# Altium footprint library axsem_testjigs.PCBLIB: 14 footprints
Each footprint in its own frame and in the unit in brackets; x right, y up, seen from the top. Pads: shape width x height; smd on the part's side, far side on the other; paste and mask are expansions set on the pad; w line width, h text height; cw(c..) or ccw(c..) is an arc to the next point about the centre after c.
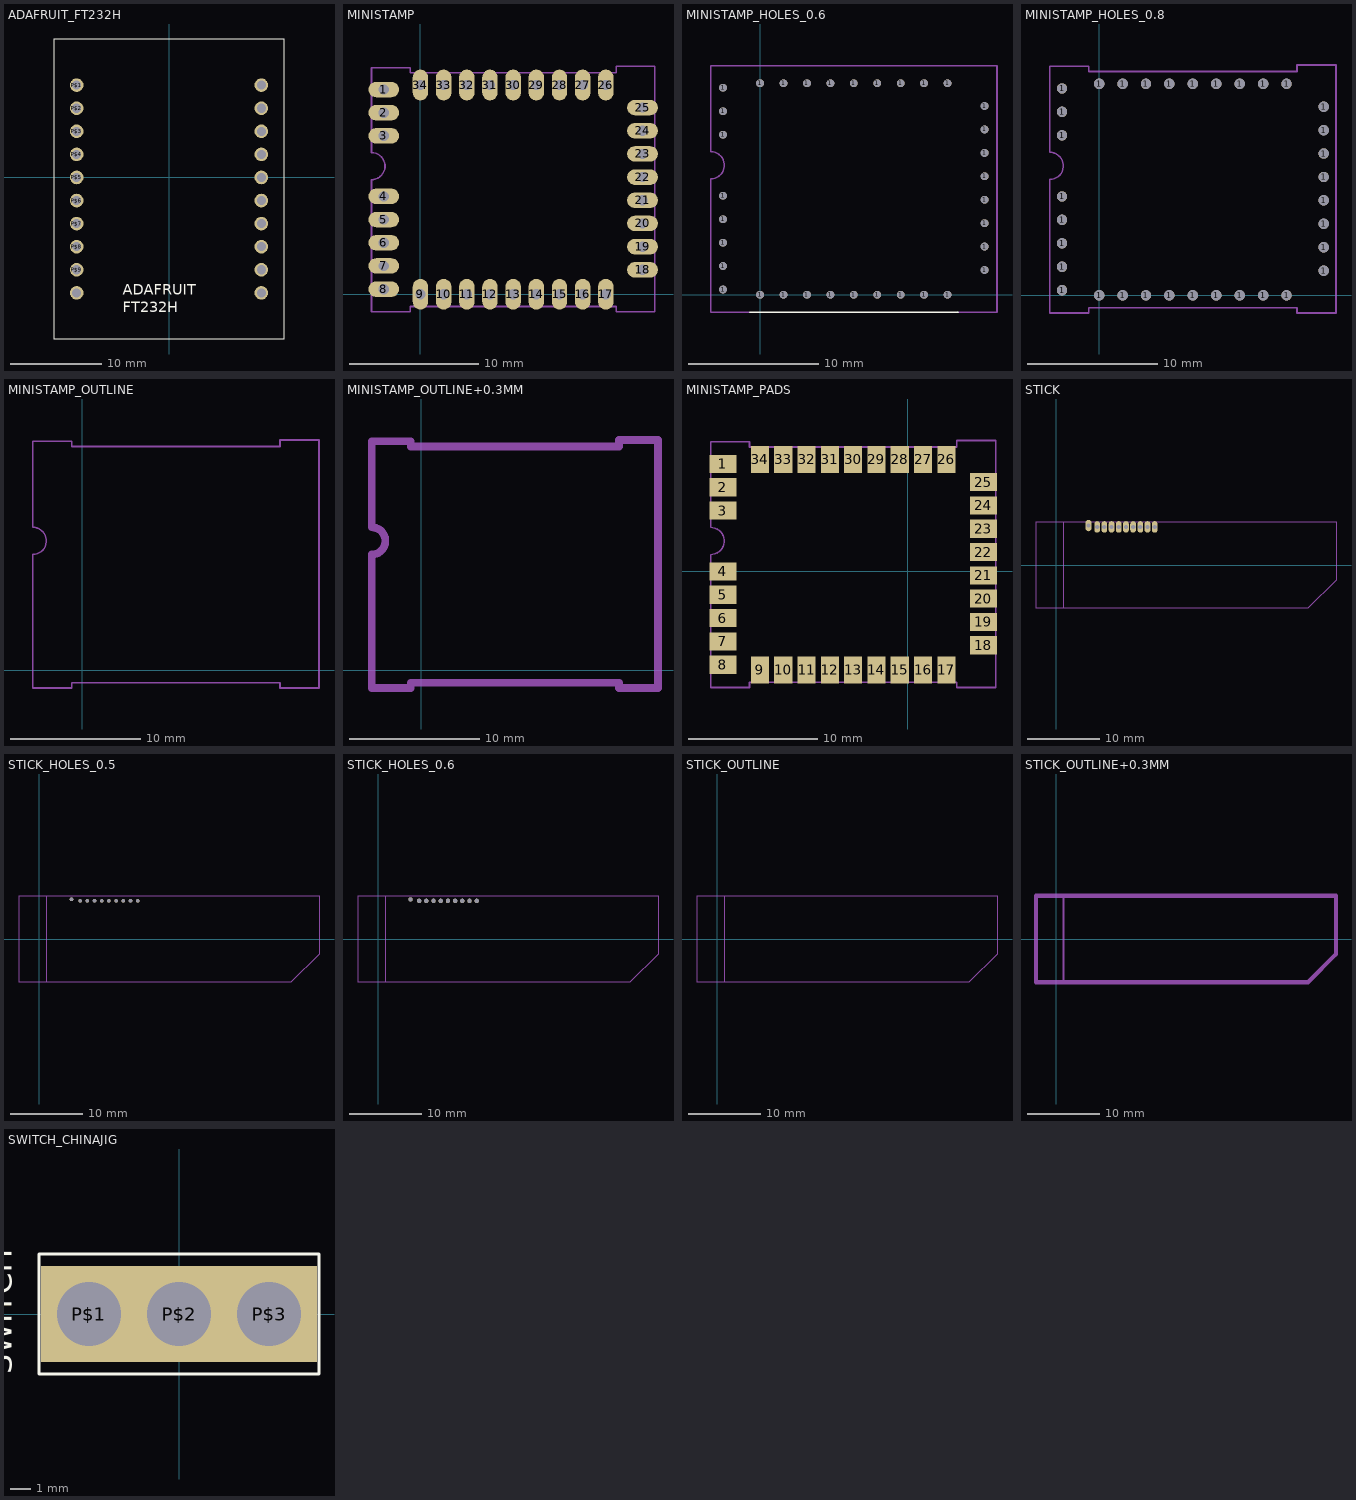
[diagram p0: the footprints below, top view; thin cyan lines are the x and y axes]

## ADAFRUIT_FT232H [mm]
pads (20):
  round 1.5 hole 1: P$1(-10.16,10.16) P$2(-10.16,7.62) P$3(-10.16,5.08) P$4(-10.16,2.54) P$5(-10.16,0) P$6(-10.16,-2.54) P$7(-10.16,-5.08) P$8(-10.16,-7.62) P$9(-10.16,-10.16) P$10(-10.16,-12.7) P$11(10.16,-12.7) P$12(10.16,-10.16) P$13(10.16,-7.62) P$14(10.16,-5.08) P$15(10.16,-2.54) P$16(10.16,0) P$17(10.16,2.54) P$18(10.16,5.08) P$19(10.16,7.62) P$20(10.16,10.16)
Top Overlay:
  lines w0.127: -12.7,-17.78 -12.7,15.24 12.7,15.24 12.7,-17.78 -12.7,-17.78
  text "ADAFRUIT" at -5.08,-13.271 h1.97
  text "FT232H" at -5.08,-15.24 h1.97

## MINISTAMP [mil]
pads (34):
  oval 94.5x47.25 hole 31.5: 1(-112.2,625.98) 2(-112.2,555.12) 3(-112.2,484.25) 4(-112.2,299.21) 5(-112.2,228.35) 6(-112.2,157.48) 7(-112.2,86.61) 8(-112.2,15.75) 18(679.13,74.8) 19(679.13,145.67) 20(679.13,216.54) 21(679.13,287.4) 22(679.13,358.27) 23(679.13,429.13) 24(679.13,500) 25(679.13,570.87)
  oval 47.25x94.5 hole 31.5: 9(0,0) 10(70.87,0) 11(141.73,0) 12(212.6,0) 13(283.46,0) 14(354.33,0) 15(425.2,0) 16(496.06,0) 17(566.93,0) 26(566.93,639.76) 27(496.06,639.76) 28(425.2,639.76) 29(354.33,639.76) 30(283.46,639.76) 31(212.6,639.76) 32(141.73,639.76) 33(70.87,639.76) 34(0,639.76)
Mechanical 16:
  lines w5: -149.61,-53.15 -149.61,350.39 ccw(c-149.61,391.73) -149.61,433.07 -149.61,692.91 -31.5,692.91 -31.5,677.17 598.43,677.17 598.43,696.85 716.54,696.85 716.54,-53.15 598.43,-53.15 598.43,-37.4 -31.5,-37.4 -31.5,-53.15 -149.61,-53.15

## MINISTAMP_HOLES_0.6 [mm]
pads (34):
  round 0.6 hole 0.6: 1(-2.85,0.4) 1(-2.85,2.2) 1(-2.85,4) 1(-2.85,5.8) 1(-2.85,7.6) 1(-2.85,12.3) 1(-2.85,14.1) 1(-2.85,15.9) 1(0,0) 1(0,16.25) 1(1.8,0) 1(1.8,16.25) 1(3.6,0) 1(3.6,16.25) 1(5.4,0) 1(5.4,16.25) 1(7.2,0) 1(7.2,16.25) 1(9,0) 1(9,16.25) 1(10.8,0) 1(10.8,16.25) 1(12.6,0) 1(12.6,16.25) 1(14.4,0) 1(14.4,16.25) 1(17.25,1.9) 1(17.25,3.7) 1(17.25,5.5) 1(17.25,7.3) 1(17.25,9.1) 1(17.25,10.9) 1(17.25,12.7) 1(17.25,14.5)
Top Overlay:
  lines w0.127: -0.8,-1.35 15.2,-1.35
Mechanical 1:
  lines w0.127: -0.8,17.6 18.2,17.6 18.2,-1.35
Mechanical 16:
  lines w0.127: -0.8,-1.35 -3.8,-1.35 -3.8,8.9 ccw(c-3.8,9.95) -3.8,11 -3.8,17.6 -0.8,17.6 ; 15.2,-1.35 18.2,-1.35

## MINISTAMP_HOLES_0.8 [mil]
pads (34):
  round 31.5 hole 31.5: 1(-112.2,15.75) 1(-112.2,86.61) 1(-112.2,157.48) 1(-112.2,228.35) 1(-112.2,299.21) 1(-112.2,484.25) 1(-112.2,555.12) 1(-112.2,625.98) 1(0,0) 1(0,639.76) 1(70.87,0) 1(70.87,639.76) 1(141.73,0) 1(141.73,639.76) 1(212.6,0) 1(212.6,639.76) 1(283.46,0) 1(283.46,639.76) 1(354.33,0) 1(354.33,639.76) 1(425.2,0) 1(425.2,639.76) 1(496.06,0) 1(496.06,639.76) 1(566.93,0) 1(566.93,639.76) 1(679.13,74.8) 1(679.13,145.67) 1(679.13,216.54) 1(679.13,287.4) 1(679.13,358.27) 1(679.13,429.13) 1(679.13,500) 1(679.13,570.87)
Mechanical 16:
  lines w5: -149.61,-53.15 -149.61,350.39 ccw(c-149.61,391.73) -149.61,433.07 -149.61,692.91 -31.5,692.91 -31.5,677.17 598.43,677.17 598.43,696.85 716.54,696.85 716.54,-53.15 598.43,-53.15 598.43,-37.4 -31.5,-37.4 -31.5,-53.15 -149.61,-53.15

## MINISTAMP_OUTLINE [mm]
Mechanical 16:
  lines w0.127: -3.8,-1.35 -3.8,8.9 ccw(c-3.8,9.95) -3.8,11 -3.8,17.6 -0.8,17.6 -0.8,17.2 15.2,17.2 15.2,17.7 18.2,17.7 18.2,-1.35 15.2,-1.35 15.2,-0.95 -0.8,-0.95 -0.8,-1.35 -3.8,-1.35

## MINISTAMP_OUTLINE+0.3MM [mm]
Mechanical 16:
  lines w0.6: -3.8,-1.35 -3.8,8.9 ccw(c-3.8,9.95) -3.8,11 -3.8,17.6 -0.8,17.6 -0.8,17.2 15.2,17.2 15.2,17.7 18.2,17.7 18.2,-1.35 15.2,-1.35 15.2,-0.95 -0.8,-0.95 -0.8,-1.35 -3.8,-1.35

## MINISTAMP_PADS [mm]
pads (34):
  rect 2.1x1.4 smd: 1(-14.28,8.28) 2(-14.28,6.48) 3(-14.28,4.68) 4(-14.28,-0.02) 5(-14.28,-1.82) 6(-14.28,-3.62) 7(-14.28,-5.42) 8(-14.28,-7.22) 18(5.82,-5.72) 19(5.82,-3.92) 20(5.82,-2.12) 21(5.82,-0.32) 22(5.82,1.48) 23(5.82,3.28) 24(5.82,5.08) 25(5.82,6.88)
  rect 1.4x2.1 smd: 9(-11.43,-7.62) 10(-9.63,-7.62) 11(-7.83,-7.62) 12(-6.03,-7.62) 13(-4.23,-7.62) 14(-2.43,-7.62) 15(-0.63,-7.62) 16(1.17,-7.62) 17(2.97,-7.62) 26(2.97,8.63) 27(1.17,8.63) 28(-0.63,8.63) 29(-2.43,8.63) 30(-4.23,8.63) 31(-6.03,8.63) 32(-7.83,8.63) 33(-9.63,8.63) 34(-11.43,8.63)
Mechanical 16:
  lines w0.127: -15.23,-8.97 -15.23,1.28 ccw(c-15.23,2.33) -15.23,3.38 -15.23,9.98 -12.23,9.98 -12.23,9.58 3.77,9.58 3.77,10.08 6.77,10.08 6.77,-8.97 3.77,-8.97 3.77,-8.57 -12.23,-8.57 -12.23,-8.97 -15.23,-8.97

## MINSTAMP_NO_HOLES [mm]

## STICK [mil]
pads (10):
  oval 31.5x63 hole 23.62: P$1(539.37,208.66) P$2(500,208.66) P$3(460.63,208.66) P$4(421.26,208.66) P$5(381.89,208.66) P$6(342.52,208.66) P$7(303.15,208.66) P$8(263.78,208.66) P$9(224.41,208.66) P$10(177.17,216.54)
Mechanical 16:
  lines w0: 39.37,-236.22 39.37,236.22 ; -110.24,-236.22 1377.95,-236.22 1531.5,-82.68 1531.5,236.22 -110.24,236.22 -110.24,-236.22
  text "PB3" at 224.41,177.17 h20.08
  text "TX" at 263.78,177.17 h20.08
  text "RX" at 303.15,177.17 h20.08
  text "DATA" at 342.52,177.17 h20.08
  text "CLK" at 381.89,177.17 h20.08
  text "EN" at 421.26,177.17 h20.08
  text "!RST" at 460.63,177.17 h20.08
  text "GND" at 185.04,177.17 h20.08
  text "GND" at 500,177.17 h20.08
  text "3V3" at 539.37,177.17 h20.08

## STICK_HOLES_0.5 [mm]
pads (10):
  round 0.5 hole 0.5: 1(4.5,5.5) 1(5.7,5.3) 1(6.7,5.3) 1(7.7,5.3) 1(8.7,5.3) 1(9.7,5.3) 1(10.7,5.3) 1(11.7,5.3) 1(12.7,5.3) 1(13.7,5.3)
Mechanical 14:
  text "Holes: 0.5mm diameter" at 2,-5 h1.08
Mechanical 16:
  lines w0: 1,-6 1,6 ; -2.8,-6 35,-6 38.9,-2.1 38.9,6 -2.8,6 -2.8,-6
  text "PB3" at 5.7,4.5 h0.51
  text "TX" at 6.7,4.5 h0.51
  text "RX" at 7.7,4.5 h0.51
  text "DATA" at 8.7,4.5 h0.51
  text "CLK" at 9.7,4.5 h0.51
  text "EN" at 10.7,4.5 h0.51
  text "!RST" at 11.7,4.5 h0.51
  text "GND" at 4.7,4.5 h0.51
  text "GND" at 12.7,4.5 h0.51
  text "3V3" at 13.7,4.5 h0.51

## STICK_HOLES_0.6 [mm]
pads (10):
  round 0.6 hole 0.6: 1(4.5,5.5) 1(5.7,5.3) 1(6.7,5.3) 1(7.7,5.3) 1(8.7,5.3) 1(9.7,5.3) 1(10.7,5.3) 1(11.7,5.3) 1(12.7,5.3) 1(13.7,5.3)
Mechanical 14:
  text "Holes: 0.6mm diameter" at 2.54,-5.08 h1.08
Mechanical 16:
  lines w0: 1,-6 1,6 ; -2.8,-6 35,-6 38.9,-2.1 38.9,6 -2.8,6 -2.8,-6
  text "PB3" at 5.7,4.5 h0.51
  text "TX" at 6.7,4.5 h0.51
  text "RX" at 7.7,4.5 h0.51
  text "DATA" at 8.7,4.5 h0.51
  text "CLK" at 9.7,4.5 h0.51
  text "EN" at 10.7,4.5 h0.51
  text "!RST" at 11.7,4.5 h0.51
  text "GND" at 4.7,4.5 h0.51
  text "GND" at 12.7,4.5 h0.51
  text "3V3" at 13.7,4.5 h0.51

## STICK_OUTLINE [mm]
Mechanical 16:
  lines w0: 1,-6 1,6 ; -2.8,-6 35,-6 38.9,-2.1 38.9,6 -2.8,6 -2.8,-6

## STICK_OUTLINE+0.3MM [mm]
Mechanical 16:
  lines w0.3: 1,-6 1,6
  lines w0.6: -2.8,-6 35,-6 38.9,-2.1 38.9,6 -2.8,6 -2.8,-6

## SWITCH_CHINAJIG [mm]
pads (3):
  rect 4.8x4.8 hole 3.2: P$1(-4.5,0) P$2(0,0) P$3(4.5,0)
Top Overlay:
  lines w0.127: -7,-3 -7,3 7,3 7,-3 -7,-3
  text "SWITCH" at -8,-3 h1.97